# Altium integrated library altera-stratix-iv.IntLib: 38 symbols (part 19 of 21)
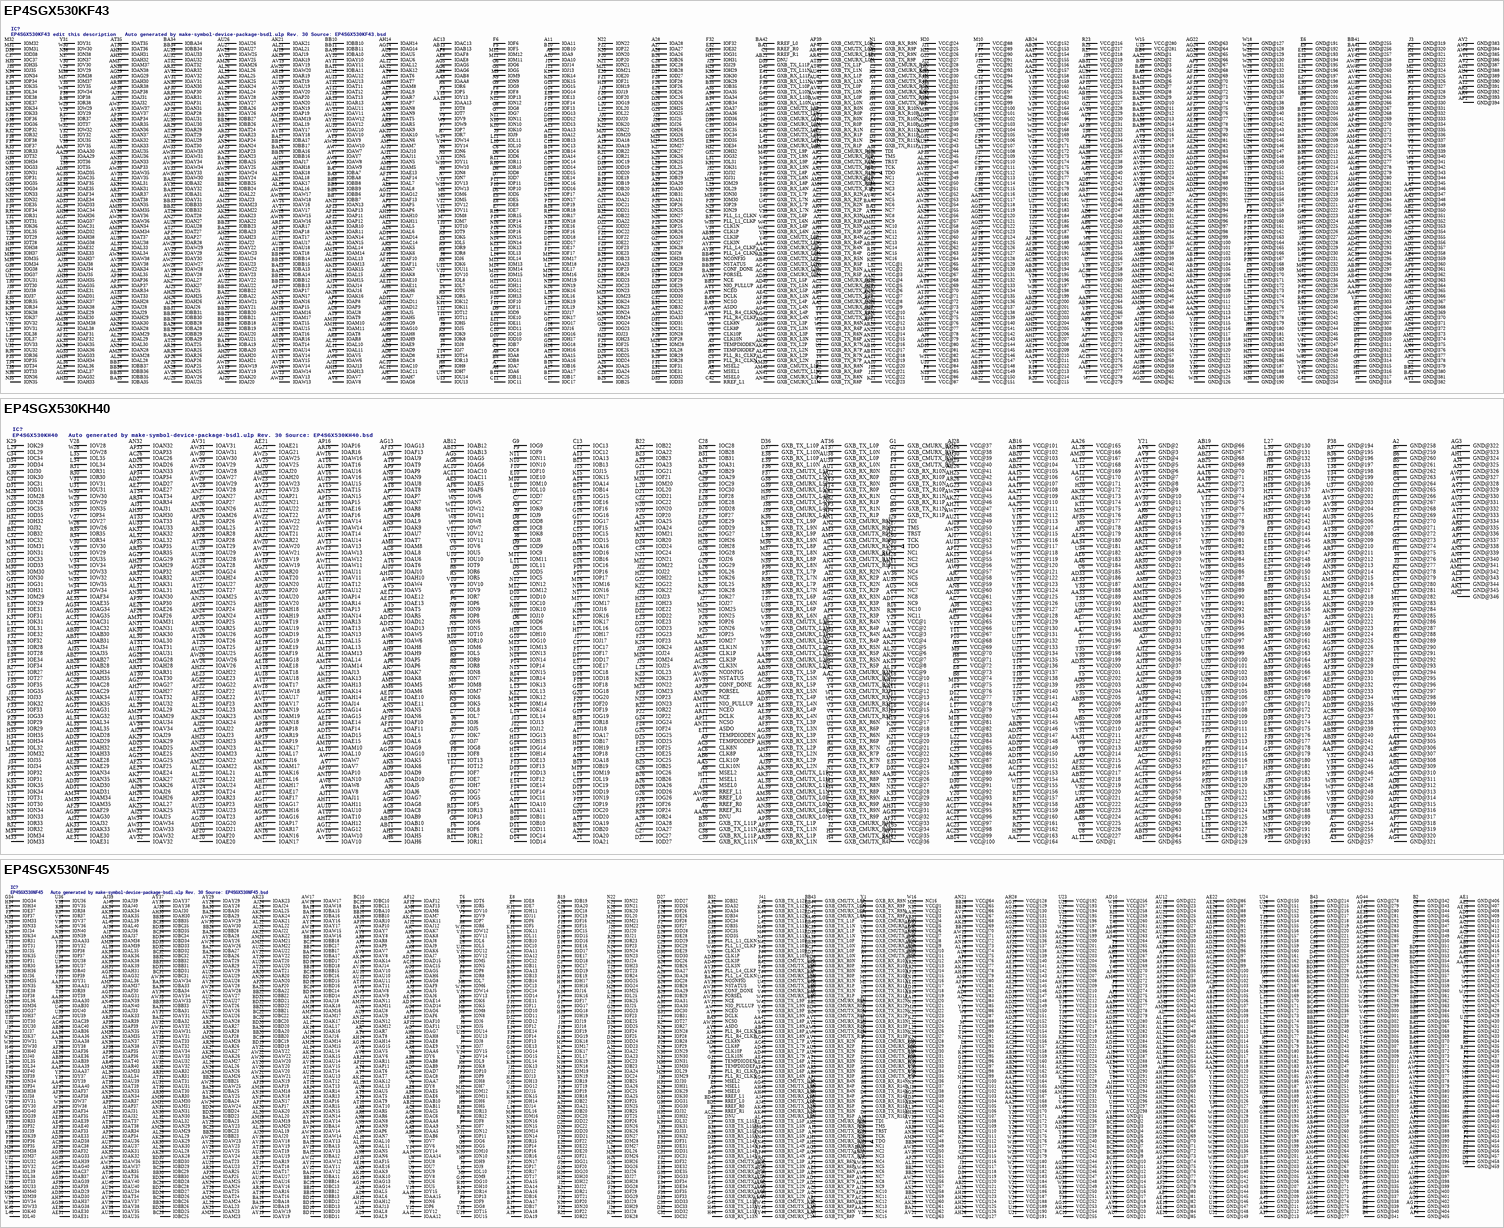
[diagram p34: symbols EP4SGX530KF43 to EP4SGX530NF45]

## EP4SGX530KF43
designator IC?, comment EP4SGX530KF43 edit this description   Auto generated by make-symbol-device-package-bsdl.ulp Rev. 30 Source: EP4SGX530KF43.bsd
MPN: EP4SGX530KF43C3N; OC_FARNELL: unknown; OC_NEWARK: 52R2020
footprint FBGA1760
pins: A2 MSEL0, A3 TEMPDIODEN, A4 TEMPDIODEP, A5 MSEL1, A6 IOA6, A7 IOA7, A8 IOA8, A9 IOA9, A10 IOA10, A11 IOA11, A12 IOA12, A13 IOA13, A14 IOA14, A15 IOA15, A16 IOA16, A17 IOA17, A18 IOA18, A19 IOA19, A20 IOA20, A21 IOA21, A22 IOA22, A23 IOA23, A24 IOA24, A25 IOA25, A26 IOA26, A27 IOA27, A28 IOA28, A29 IOA29, A30 IOA30, A31 IOA31, A32 IOA32, A33 IOA33, A34 IOA34, A35 IOA35, A36 IOA36, A37 IOA37, A38 TDI, A39 NC1, A40 TCK, A41 TRST, AA1 GXB_CMURX_R3N, AA2 GXB_CMURX_R3P, AA3 GND@348 (power), AA4 GND@347 (power), AA5 VCC@240 (power), AA6 VCC@251 (power), AA7 GND@346 (power), AA8 IOAA8, AA9 VCC@267 (power), AA10 VCC@20 (power), AA11 VCC@19 (power), AA12 VCC@225 (power), AA13 IOAA13, AA14 VCC@211 (power), AA15 VCC@277 (power), AA16 GND@109 (power), AA17 VCC@154 (power), AA18 GND@110 (power), AA19 VCC@155 (power), AA20 GND@111 (power), AA21 VCC@117 (power), AA22 GND@2 (power), AA23 VCC@156 (power), AA24 GND@112 (power), AA25 VCC@157 (power), AA26 GND@113 (power), AA27 VCC@158 (power), AA28 GND@114 (power), AA29 IOAA29, AA30 IOAA30, AA31 VCC@221 (power), AA32 VCC@4 (power), AA33 VCC@3 (power), AA34 VCC@264 (power), AA35 CLK3N, AA36 GND@300 (power), AA37 VCC@245 (power), AA38 VCC@237 (power), AA39 GND@301 (power), AA40 GND@302 (power), AA41 GXB_CMURX_L3P, AA42 GXB_CMURX_L3N, AB1 GND@351 (power), AB2 GND@350 (power), AB3 GXB_CMUTX_R2N, AB4 GXB_CMUTX_R2P, AB5 GND@349 (power), AB6 VCC@250 (power), AB7 VCC@276 (power), AB8 IOAB8, AB9 VCC@268 (power), AB10 VCC@17 (power), AB11 VCC@18 (power), AB12 VCC@226 (power), AB13 IOAB13, AB14 VCC@210 (power), AB15 GND@103 (power), AB16 VCC@148 (power), AB17 GND@104 (power), AB18 VCC@149 (power), AB19 GND@105 (power), AB20 VCC@150 (power), AB21 DNU, AB22 VCC@151 (power), AB23 GND@106 (power), AB24 VCC@152 (power), AB25 GND@107 (power), AB26 VCC@153 (power), AB27 GND@108 (power), AB28 VCC@194 (power), AB29 VCC@200 (power), AB30 NC14, AB31 VCC@220 (power), AB32 VCC@5 (power), AB33 VCC@6 (power), AB34 VCC@265 (power), AB35 CLK3P, AB36 VCC@195 (power), AB37 VCC@244 (power), AB38 GND@297 (power), AB39 GXB_CMUTX_L2P, AB40 GXB_CMUTX_L2N, AB41 GND@298 (power), AB42 GND@299 (power), AC1 GXB_CMURX_R2N, AC2 GXB_CMURX_R2P, AC3 GND@354 (power), AC4 GND@353 (power), AC5 VCC@262 (power), AC6 GND@352 (power), AC7 VCC@274 (power), AC8 IOAC8, AC9 GND@92 (power), AC10 IOAC10, AC11 IOAC11, AC12 GND@93 (power), AC13 IOAC13, AC14 IOAC14, AC15 VCC@275 (power), AC16 GND@94 (power), AC17 VCC@142 (power), AC18 GND@95 (power), AC19 VCC@143 (power), AC20 GND@96 (power), AC21 VCC@144 (power), AC22 GND@97 (power), AC23 VCC@145 (power), AC24 GND@98 (power), AC25 VCC@146 (power), AC26 GND@99 (power), AC27 VCC@147 (power), AC28 GND@100 (power), AC29 NC13, AC30 GND@101 (power), AC31 IOAC31, AC33 GND@102 (power), AC34 IOAC34, AC35 IOAC35, AC36 VCC@193 (power), AC37 GND@294 (power), AC38 VCC@259 (power), AC39 GND@295 (power), AC40 GND@296 (power), AC41 GXB_CMURX_L2P, AC42 GXB_CMURX_L2N, AD1 GND@358 (power), AD2 GND@357 (power), AD3 GXB_TX_R5N, AD4 GXB_TX_R5P, AD5 GND@356 (power), AD6 VCC@248 (power), AD7 GND@355 (power), AD8 IOAD8, AD9 IOAD9, AD10 VCC@81 (power), AD11 IOAD11, AD12 IOAD12, AD13 VCC@78 (power), AD14 IOAD14, AD15 GND@85 (power), AD16 VCC@136 (power), AD17 GND@86 (power), AD18 VCC@137 (power), AD19 GND@87 (power), AD20 VCC@138 (power), AD21 GND@88 (power), AD22 VCC@139 (power), AD23 GND@89 (power), AD24 VCC@140 (power), AD25 GND@90 (power), AD26 VCC@141 (power), AD27 GND@91 (power), AD28 VCC@192 (power), AD29 VCC@201 (power), AD30 VCC@41 (power), AD31 IOAD31, AD32 IOAD32, AD33 IOAD33, AD34 VCC@38 (power), AD35 IOAD35, AD36 GND@290 (power), AD37 VCC@242 (power), AD38 GND@291 (power), AD39 GXB_TX_L5P, AD40 GXB_TX_L5N, AD41 GND@292 (power), AD42 GND@293 (power), AE1 GXB_RX_R5N, AE2 GXB_RX_R5P, AE3 GND@360 (power), AE4 GND@359 (power), AE5 VCC@239 (power), AE6 VCC@249 (power), AE7 VCC@272 (power), AE8 IOAE8, AE9 IOAE9, AE10 IOAE10, AE11 IOAE11, AE13 IOAE13, AE14 VCC@209 (power), AE15 VCC@273 (power), AE16 GND@78 (power), AE17 VCC@130 (power), AE18 GND@79 (power), AE19 VCC@131 (power), AE20 GND@80 (power), AE21 VCC@132 (power), AE22 GND@81 (power), AE23 VCC@133 (power), AE24 GND@82 (power), AE25 VCC@134 (power), AE26 GND@83 (power), AE27 VCC@135 (power), AE28 GND@84 (power), AE29 IOAE29, AE30 IOAE30, AE31 IOAE31, AE32 IOAE32, AE33 IOAE33, AE34 IOAE34, AE35 IOAE35, AE36 VCC@191 (power), AE37 VCC@243 (power), AE38 VCC@236 (power), AE39 GND@288 (power), AE40 GND@289 (power), AE41 GXB_RX_L5P, AE42 GXB_RX_L5N, AF1 GND@363 (power), AF2 GND@362 (power), AF3 GXB_TX_R4N, AF4 GXB_TX_R4P, AF5 VCC@234 (power), AF6 GND@361 (power), AF7 VCC@271 (power), AF8 IOAF8, AF9 GND@67 (power), AF10 IOAF10, AF11 IOAF11, AF12 GND@68 (power), AF13 IOAF13, AF14 IOAF14, AF15 GND@69 (power), AF16 VCC@124 (power), AF17 GND@70 (power), AF18 VCC@125 (power), AF19 GND@71 (power), AF20 VCC@126 (power), AF21 GND@72 (power), AF22 VCC@127 (power), AF23 GND@73 (power), AF24 VCC@128 (power), AF25 GND@74 (power), AF26 VCC@129 (power), AF27 GND@75 (power), AF28 VCC@190 (power), AF29 VCC@202 (power), AF30 GND@76 (power), AF31 IOAF31, AF32 IOAF32, AF33 GND@77 (power), AF34 IOAF34, AF35 IOAF35, AF36 VCC@189 (power), AF37 GND@285 (power), AF38 VCC@232 (power), AF39 GXB_TX_L4P, AF40 GXB_TX_L4N, AF41 GND@286 (power), AF42 GND@287 (power), AG1 GXB_RX_R4N, AG2 GXB_RX_R4P, AG3 GND@365 (power), AG4 GND@364 (power), AG5 IOAG5, AG6 IOAG6, AG7 VCC@256 (power), AG8 IOAG8, AG9 IOAG9, AG10 IOAG10, AG11 VCC@80 (power), AG12 IOAG12, AG13 VCC@73 (power), AG14 IOAG14, AG15 NC12, AG16 GND@60 (power), AG17 VCC@118 (power), AG18 GND@61 (power), AG19 VCC@119 (power), AG20 GND@62 (power), AG21 VCC@120 (power), AG22 GND@63 (power), AG23 VCC@121 (power), AG24 GND@64 (power), AG25 VCC@122 (power), AG26 GND@65 (power), AG27 VCC@123 (power), AG28 GND@66 (power), AG29 IOAG29, AG31 VCC@42 (power), AG32 IOAG32, AG33 IOAG33, AG34 VCC@40 (power), AG35 IOAG35, AG36 VCC@254 (power), AG37 IOAG37, AG38 IOAG38, AG39 GND@283 (power), AG40 GND@284 (power), AG41 GXB_RX_L4P, AG42 GXB_RX_L4N, AH1 GND@367 (power), AH2 GND@366 (power), AH3 GXB_TX_R3N, AH4 GXB_TX_R3P, AH5 IOAH5, AH6 IOAH6, AH7 IOAH7, AH8 IOAH8, AH9 IOAH9, AH10 IOAH10, AH11 IOAH11, AH13 IOAH13, AH14 IOAH14, AH15 IOAH15, AH16 VCC@208 (power), AH17 VCC@207 (power), AH18 IOAH18, AH19 VCC@206 (power), AH20 IOAH20, AH21 IOAH21, AH22 VCC@205 (power), AH23 IOAH23, AH24 VCC@204 (power), AH25 IOAH25, AH26 IOAH26, AH27 VCC@203 (power), AH28 IOAH28, AH29 IOAH29, AH30 IOAH30, AH31 IOAH31, AH32 IOAH32, AH33 IOAH33, AH34 IOAH34, AH35 IOAH35, AH36 IOAH36, AH37 IOAH37, AH38 IOAH38, AH39 GXB_TX_L3P, AH40 GXB_TX_L3N, AH41 GND@281 (power), AH42 GND@282 (power), AJ1 GXB_RX_R3N, AJ2 GXB_RX_R3P, AJ3 GND@369 (power), AJ4 GND@368 (power), AJ5 IOAJ5, AJ6 GND@49 (power), AJ7 IOAJ7, AJ8 VCC@79 (power), AJ9 GND@50 (power), AJ10 IOAJ10, AJ11 IOAJ11, AJ12 GND@51 (power), AJ13 IOAJ13, AJ14 IOAJ14, AJ15 GND@52 (power), AJ16 IOAJ16, AJ17 IOAJ17, AJ18 GND@53 (power), AJ19 IOAJ19, AJ20 IOAJ20, AJ21 GND@54 (power), AJ22 IOAJ22, AJ23 IOAJ23, AJ24 GND@55 (power), AJ25 IOAJ25, AJ26 IOAJ26, AJ27 GND@56 (power), AJ28 IOAJ28, AJ29 IOAJ29, AJ30 GND@57 (power), AJ31 IOAJ31, AJ32 IOAJ32, AJ33 GND@58 (power), AJ34 IOAJ34, AJ35 IOAJ35, AJ36 GND@59 (power), AJ37 VCC@39 (power), AJ38 IOAJ38, AJ39 GND@279 (power), AJ40 GND@280 (power), AJ41 GXB_RX_L3P, AJ42 GXB_RX_L3N, AK1 GND@371 (power), AK2 GND@370 (power), AK3 GXB_TX_R2N, AK4 GXB_TX_R2P, AK5 IOAK5, AK6 IOAK6, AK7 IOAK7, AK8 IOAK8, AK9 IOAK9, AK10 IOAK10, AK11 VCC@77 (power), AK12 IOAK12, AK13 NC11, AK14 VCC@68 (power), AK15 IOAK15, AK16 IOAK16, AK17 IOAK17, AK18 IOAK18, AK19 IOAK19, AK20 IOAK20, AK21 IOAK21, AK22 IOAK22, AK23 IOAK23, AK24 IOAK24, AK25 IOAK25, AK26 VCC@52 (power), AK27 IOAK27, AK28 IOAK28, AK29 VCC@47 (power), AK30 IOAK30, AK31 IOAK31, AK32 IOAK32, AK33 IOAK33, AK34 IOAK34, AK35 IOAK35, AK36 IOAK36, AK37 IOAK37, AK38 IOAK38, AK39 GXB_TX_L2P, AK40 GXB_TX_L2N, AK41 GND@277 (power), AK42 GND@278 (power), AL1 GXB_RX_R2N, AL2 GXB_RX_R2P, AL3 GND@373 (power), AL4 GND@372 (power), AL5 IOAL5, AL6 IOAL6, AL7 IOAL7, AL8 IOAL8, AL9 IOAL9, AL10 IOAL10, AL11 IOAL11, AL12 IOAL12, AL13 IOAL13, AL14 IOAL14, AL15 IOAL15, AL16 IOAL16, AL17 VCC@67 (power), AL18 IOAL18, AL19 IOAL19, AL20 VCC@62 (power), AL21 IOAL21, AL22 IOAL22, AL23 VCC@57 (power), AL24 IOAL24, AL25 IOAL25, AL26 IOAL26, AL27 IOAL27, AL28 IOAL28, AL29 IOAL29, AL30 IOAL30, AL31 IOAL31, AL32 VCC@46 (power), AL33 IOAL33, AL34 IOAL34, AL35 IOAL35, AL36 IOAL36, AL37 IOAL37, AL38 IOAL38, AL39 GND@275 (power), AL40 GND@276 (power), AL41 GXB_RX_L2P, AL42 GXB_RX_L2N, AM1 GND@375 (power), AM2 GND@374 (power), AM3 GXB_CMUTX_R1N, AM4 GXB_CMUTX_R1P, AM5 IOAM5, AM6 GND@38 (power), AM7 IOAM7, AM8 IOAM8, AM9 GND@39 (power), AM10 IOAM10, AM11 IOAM11, AM12 GND@40 (power), AM13 IOAM13, AM14 IOAM14, AM15 GND@41 (power), AM16 IOAM16, AM17 IOAM17, AM18 GND@42 (power), AM19 IOAM19, AM21 GND@43 (power), AM22 IOAM22, AM23 IOAM23, AM24 GND@44 (power), AM26 IOAM26, AM27 GND@45 (power), AM28 IOAM28, AM29 IOAM29, AM30 GND@46 (power), AM31 NC9, AM32 NC10, AM33 GND@47 (power), AM34 IOAM34, AM35 IOAM35, AM36 GND@48 (power), AM37 IOAM37, AM38 IOAM38, AM39 GXB_CMUTX_L1P, AM40 GXB_CMUTX_L1N, AM41 GND@273 (power), AM42 GND@274 (power), AN1 GXB_CMURX_R1N, AN2 GXB_CMURX_R1P, AN3 GND@377 (power), AN4 GND@376 (power), AN5 IOAN5, AN6 IOAN6, AN7 VCC@75 (power), AN8 IOAN8, AN9 IOAN9, AN10 VCC@76 (power), AN11 VCC@15 (power), AN12 VCC@16 (power), AN13 IOAN13, AN14 IOAN14, AN15 IOAN15, AN16 IOAN16, AN17 IOAN17, AN19 IOAN19, AN20 IOAN20, AN21 VCC@14 (power), AN22 VCC@9 (power), AN23 IOAN23, AN24 IOAN24, AN25 IOAN25, AN26 VCC@56 (power), AN27 IOAN27, AN28 IOAN28, AN29 VCC@51 (power), AN30 IOAN30, AN31 IOAN31, AN32 VCC@7 (power), AN33 IOAN33, AN34 IOAN34, AN35 IOAN35, AN36 IOAN36, AN37 IOAN37, AN38 IOAN38, AN39 GND@271 (power), AN40 GND@272 (power), AN41 GXB_CMURX_L1P, AN42 GXB_CMURX_L1N, AP1 GND@394 (power), AP2 GND@378 (power), AP3 GXB_CMUTX_R0N, AP4 GXB_CMUTX_R0P, AP5 IOAP5, AP6 IOAP6, AP7 IOAP7, AP8 IOAP8, AP9 IOAP9, AP10 VCC@224 (power), AP11 IOAP11, AP12 IOAP12, AP13 IOAP13, AP14 VCC@72 (power), AP15 IOAP15, AP16 VCC@66 (power), AP17 IOAP17, AP18 IOAP18, AP19 IOAP19, AP20 IOAP20, AP21 VCC@12 (power), AP22 VCC@11 (power), AP23 IOAP23, AP24 IOAP24, AP25 IOAP25, AP26 IOAP26, AP27 IOAP27, AP28 IOAP28, AP30 IOAP30, AP31 IOAP31, AP32 VCC@8 (power), AP33 IOAP33, AP34 IOAP34, AP35 VCC@45 (power), AP36 IOAP36, AP37 IOAP37, AP38 IOAP38, AP39 GXB_CMUTX_L0P, AP40 GXB_CMUTX_L0N, AP41 GND@269 (power), AP42 GND@270 (power), AR1 GXB_CMURX_R0N, AR2 GXB_CMURX_R0P, AR3 GND@392 (power), AR4 GND@393 (power), AR5 IOAR5, AR6 GND@27 (power), AR7 IOAR7, AR8 IOAR8, AR9 GND@28 (power), AR10 IOAR10, AR11 IOAR11, AR12 GND@29 (power), AR13 IOAR13, AR15 GND@30 (power), AR16 IOAR16, AR17 IOAR17, AR18 GND@31 (power), AR19 IOAR19, AR20 VCC@13 (power), AR21 GND@32 (power), AR22 VCC@10 (power), AR23 IOAR23, AR24 GND@33 (power), AR25 IOAR25, AR26 IOAR26, AR27 GND@34 (power), AR28 IOAR28, AR29 IOAR29, AR30 GND@35 (power), AR31 IOAR31, AR32 IOAR32, AR33 GND@36 (power), AR34 IOAR34, AR35 IOAR35, AR36 GND@37 (power), AR37 IOAR37, AR38 IOAR38, AR39 GND@267 (power), AR40 GND@268 (power), AR41 GXB_CMURX_L0P, AR42 GXB_CMURX_L0N, AT1 GND@390 (power), AT2 GND@391 (power), AT3 GXB_TX_R1N, AT4 GXB_TX_R1P, AT5 IOAT5, AT6 IOAT6, AT7 IOAT7, AT8 IOAT8, AT9 IOAT9, AT10 VCC@71 (power), AT11 IOAT11, AT12 IOAT12, AT13 IOAT13, AT14 IOAT14, AT15 IOAT15, AT16 IOAT16, AT17 IOAT17, AT18 IOAT18, AT19 IOAT19, AT20 VCC@61 (power), AT21 VCC@223 (power), AT23 VCC@59 (power), AT24 IOAT24, AT25 IOAT25, AT26 VCC@55 (power), AT27 IOAT27, AT28 IOAT28, AT29 IOAT29, AT30 IOAT30, AT31 VCC@50 (power), AT32 IOAT32, AT33 IOAT33, AT34 VCC@44 (power), AT35 IOAT35, AT36 IOAT36, AT37 IOAT37, AT38 IOAT38, AT39 GXB_TX_L1P, AT40 GXB_TX_L1N, AT41 GND@265 (power), AT42 GND@266 (power), AU1 GXB_RX_R1N, AU2 GXB_RX_R1P, AU3 GND@388 (power), AU4 GND@389 (power), AU5 IOAU5, AU6 IOAU6, AU7 VCC@74 (power), AU8 IOAU8, AU9 VCC@230 (power), AU10 IOAU10, AU11 IOAU11, AU12 IOAU12, AU13 IOAU13, AU14 IOAU14, AU15 IOAU15, AU16 VCC@65 (power), AU17 IOAU17, AU18 IOAU18, AU19 IOAU19, AU20 IOAU20, AU21 IOAU21, AU22 IOAU22, AU23 IOAU23, AU24 IOAU24, AU25 IOAU25, AU26 IOAU26, AU27 IOAU27, AU28 IOAU28, AU29 IOAU29, AU30 IOAU30, AU31 IOAU31, AU32 IOAU32, AU33 IOAU33, AU34 VCC@222 (power), AU35 IOAU35, AU36 IOAU36, AU37 VCC@43 (power), AU38 IOAU38, AU39 GND@263 (power), AU40 GND@264 (power), AU41 GXB_RX_L1P, AU42 GXB_RX_L1N, AV1 GND@386 (power), AV2 GND@387 (power), AV3 GXB_TX_R0N, AV4 GXB_TX_R0P, AV5 IOAV5, AV6 GND@16 (power), AV7 IOAV7, AV8 IOAV8, AV9 GND@17 (power), AV10 IOAV10, AV11 IOAV11, AV12 GND@18 (power), AV13 IOAV13, AV14 IOAV14, AV15 GND@19 (power), AV16 IOAV16, AV17 IOAV17, AV18 GND@20 (power), AV19 IOAV19, AV20 IOAV20, AV21 GND@21 (power), AV22 IOAV22, AV23 IOAV23, AV24 GND@22 (power), AV25 IOAV25, AV26 IOAV26, AV27 GND@23 (power), AV28 IOAV28, AV29 IOAV29, AV30 GND@24 (power), AV31 IOAV31, AV32 IOAV32, AV33 GND@25 (power), AV34 VCC@229 (power), AV35 IOAV35, AV36 GND@26 (power), AV37 IOAV37, AV38 IOAV38, AV39 GXB_TX_L0P, AV40 GXB_TX_L0N, AV41 GND@261 (power), AV42 GND@262 (power), AW1 GXB_RX_R0N, AW2 GXB_RX_R0P, AW3 GND@384 (power), AW4 GND@385 (power), AW5 PLL_R4_CLKN, AW6 IOAW6, AW7 IOAW7, AW8 IOAW8, AW9 IOAW9, AW10 IOAW10, AW11 VCC@70 (power), AW12 IOAW12, AW13 IOAW13, AW14 IOAW14, AW15 IOAW15, AW16 IOAW16, AW17 IOAW17, AW18 IOAW18, AW19 IOAW19, AW20 IOAW20, AW21 IOAW21, AW22 IOAW22, AW23 IOAW23, AW24 IOAW24, AW25 IOAW25, AW26 VCC@54 (power), AW27 IOAW27, AW28 IOAW28, AW29 IOAW29, AW30 IOAW30, AW31 IOAW31, AW32 VCC@49 (power), AW33 IOAW33, AW34 IOAW34, AW35 IOAW35, AW36 IOAW36, AW37 IOAW37, AW38 IOAW38, AW39 GND@259 (power), AW40 GND@260 (power), AW41 GXB_RX_L0P, AW42 GXB_RX_L0N, AY1 GND@382 (power), AY2 GND@383 (power), AY3 NC8, AY4 DCLK, AY5 NCEO, AY6 PLL_R4_CLKP, AY7 IOAY7, AY8 VCC@69 (power), AY9 IOAY9, AY10 IOAY10, AY11 IOAY11, AY12 IOAY12, AY13 VCC@63 (power), AY14 IOAY14, AY15 IOAY15, AY16 VCC@64 (power), AY17 IOAY17, AY18 IOAY18, AY19 IOAY19, AY20 VCC@60 (power), AY21 IOAY21, AY22 IOAY22, AY23 VCC@58 (power), AY24 IOAY24, AY25 IOAY25, AY26 IOAY26, AY27 IOAY27, AY28 IOAY28, AY29 VCC@53 (power), AY30 IOAY30, AY31 IOAY31, AY32 IOAY32, AY33 IOAY33, AY34 IOAY34, AY35 VCC@48 (power), AY36 IOAY36, AY37 PLL_L4_CLKP, AY38 PLL_L4_CLKN, AY39 NCE, AY40 NC5, AY41 GND@257 (power), AY42 GND@258 (power), B1 GND@305 (power), B2 GND@304 (power), B3 NC4, B4 MSEL2, B5 PLL_R1_CLKP, B6 GND@202 (power), B7 IOB7, B8 IOB8, B9 GND@203 (power), B10 IOB10, B11 IOB11, B12 GND@204 (power), B13 IOB13, B14 IOB14, B15 GND@205 (power), B16 IOB16, B17 IOB17, B18 GND@206 (power), B19 IOB19, B20 IOB20, B21 GND@207 (power), B22 IOB22, B23 IOB23, B24 GND@208 (power), B25 IOB25, B26 IOB26, B27 GND@209 (power), B28 IOB28, B29 IOB29, B30 GND@210 (power), B31 IOB31, B32 IOB32, B33 GND@211 (power), B34 IOB34, B35 IOB35, B36 GND@212 (power), B37 PLL_L1_CLKP, B38 TMS, B39 GND@3 (power), B40 TDO (out), B41 GND@214 (power), B42 GND@213 (power), BA1 RREF_R0, BA2 GND@381 (power), BA3 NC7, BA4 NCSO, BA5 ASDO, BA6 GND@4 (power), BA7 IOBA7, BA8 IOBA8, BA9 GND@5 (power), BA10 IOBA10, BA11 IOBA11, BA12 GND@6 (power), BA13 IOBA13, BA14 IOBA14, BA15 GND@7 (power), BA16 IOBA16, BA17 IOBA17, BA18 GND@8 (power), BA19 IOBA19, BA20 IOBA20, BA21 GND@9 (power), BA22 IOBA22, BA23 IOBA23, BA24 GND@10 (power), BA25 IOBA25, BA26 IOBA26, BA27 GND@11 (power), BA28 IOBA28, BA29 IOBA29, BA30 GND@12 (power), BA31 IOBA31, BA32 IOBA32, BA33 GND@13 (power), BA34 IOBA34, BA35 IOBA35, BA36 GND@14 (power), BA37 NC2, BA38 PORSEL, BA39 GND@15 (power), BA40 NC6, BA41 GND@256 (power), BA42 RREF_L0, BB2 GND@380 (power), BB3 NIO_PULLUP, BB4 GND@1 (power), BB5 NC3, BB6 IOBB6, BB7 IOBB7, BB8 IOBB8, BB9 IOBB9, BB10 IOBB10, BB11 IOBB11, BB12 IOBB12, BB13 IOBB13, BB14 IOBB14, BB15 IOBB15, BB16 IOBB16, BB17 IOBB17, BB18 IOBB18, BB19 IOBB19, BB20 IOBB20, BB21 IOBB21, BB22 IOBB22, BB23 IOBB23, BB24 IOBB24, BB25 IOBB25, BB26 IOBB26, BB27 IOBB27, BB28 IOBB28, BB29 IOBB29, BB30 IOBB30, BB31 IOBB31, BB32 IOBB32, BB33 IOBB33, BB34 IOBB34, BB35 IOBB35, BB36 IOBB36, BB37 IOBB37, BB38 CONF_DONE, BB39 NSTATUS, BB40 NCONFIG, BB41 GND@255 (power), C1 RREF_R1, C2 GND@379 (power), C3 GND@307 (power), C4 GND@306 (power), C5 PLL_R1_CLKN, C6 IOC6, C7 VCC@93 (power), C8 IOC8, C9 VCC@94 (power), C10 IOC10, C11 IOC11, C12 VCC@95 (power), C13 IOC13, C14 IOC14, C15 VCC@99 (power), C16 IOC16, C17 IOC17, C18 VCC@100 (power), C19 IOC19, C20 VCC@103 (power), C21 IOC21, C22 IOC22, C23 IOC23, C24 VCC@104 (power), C25 IOC25, C26 IOC26, C27 VCC@111 (power), C28 IOC28, C29 IOC29, C30 VCC@107 (power), C31 IOC31, C32 IOC32, C33 VCC@115 (power), C34 IOC34, C35 IOC35, C36 VCC@116 (power), C37 IOC37, C38 PLL_L1_CLKN, C39 GND@216 (power), C40 GND@215 (power), C41 GND@254 (power), C42 RREF_L1, D1 GND@309 (power), D2 GND@308 (power), D3 GXB_TX_R11N, D4 GXB_TX_R11P, D5 IOD5, D6 IOD6, D7 IOD7, D8 IOD8, D9 IOD9, D10 IOD10, D11 IOD11, D12 IOD12, D13 IOD13, D14 IOD14, D15 IOD15, D16 IOD16, D17 IOD17, D18 IOD18, D19 IOD19, D20 IOD20, D21 IOD21, D22 IOD22, D23 IOD23, D24 IOD24, D25 IOD25, D26 IOD26, D27 IOD27, D28 IOD28, D29 IOD29, D30 IOD30, D31 IOD31, D32 IOD32, D33 IOD33, D34 IOD34, D35 IOD35, D36 IOD36, D37 VCC@29 (power), D38 IOD38, D39 GXB_TX_L11P, D40 GXB_TX_L11N, D41 GND@218 (power), D42 GND@217 (power), E1 GXB_RX_R11N, E2 GXB_RX_R11P, E3 GND@311 (power), E4 GND@310 (power), E5 IOE5, E6 GND@191 (power), E7 IOE7, E8 IOE8, E9 GND@192 (power), E10 IOE10, E11 IOE11, E12 GND@193 (power), E13 IOE13, E14 IOE14, E15 GND@194 (power), E16 IOE16, E17 IOE17, E18 GND@195 (power), E19 IOE19, E20 IOE20, E21 GND@196 (power), E22 IOE22, E23 IOE23, E24 GND@197 (power), E25 IOE25, E26 IOE26, E27 GND@198 (power), E28 IOE28, E29 IOE29, E30 GND@199 (power), E31 IOE31, E32 IOE32, E33 GND@200 (power), E34 IOE34, E35 IOE35, E36 GND@201 (power), E37 IOE37, E38 IOE38, E39 GND@220 (power), E40 GND@219 (power), E41 GXB_RX_L11P, E42 GXB_RX_L11N, F1 GND@313 (power), F2 GND@312 (power), F3 GXB_TX_R10N, F4 GXB_TX_R10P, F5 IOF5, F6 IOF6, F7 VCC@90 (power), F8 IOF8, F9 VCC@231 (power), F10 IOF10, F11 IOF11, F12 VCC@91 (power), F13 IOF13, F14 IOF14, F15 VCC@97 (power), F16 IOF16, F17 IOF17, F18 VCC@98 (power), F19 VCC@101 (power), F20 IOF20, F21 IOF21, F22 IOF22, F23 IOF23, F24 VCC@106 (power), F25 IOF25, F26 IOF26, F27 VCC@110 (power), F28 IOF28, F29 IOF29, F30 VCC@112 (power), F31 IOF31, F32 IOF32, F33 VCC@114 (power), F34 IOF34, F35 VCC@33 (power), F36 IOF36, F37 IOF37, F38 IOF38, F39 GXB_TX_L10P, F40 GXB_TX_L10N, F41 GND@222 (power), F42 GND@221 (power), G1 GXB_RX_R10N, G2 GXB_RX_R10P, G3 GND@315 (power), G4 GND@314 (power), G5 IOG5, G6 IOG6, G7 IOG7, G8 IOG8, G9 IOG9, G10 NC16, G11 IOG11, G12 IOG12, G13 IOG13, G14 IOG14, G15 IOG15, G16 IOG16, G17 IOG17, G18 IOG18, G19 IOG19, G21 VCC@228 (power), G22 VCC@27 (power), G23 IOG23, G24 IOG24, G25 IOG25, G26 IOG26, G27 IOG27, G28 IOG28, G29 IOG29, G31 IOG31, G32 IOG32, G33 IOG33, G34 IOG34, G35 IOG35, G36 IOG36, G37 IOG37, G38 IOG38, G39 GND@224 (power), G40 GND@223 (power), G41 GXB_RX_L10P, G42 GXB_RX_L10N, H1 GND@317 (power), H2 GND@316 (power), H3 GXB_CMUTX_R5N, H4 GXB_CMUTX_R5P, H5 IOH5, H6 GND@180 (power), H7 IOH7, H8 IOH8, H9 GND@181 (power), H10 VCC@227 (power), H11 IOH11, H12 GND@182 (power), H13 IOH13, H15 GND@183 (power), H16 IOH16, H17 IOH17, H18 GND@184 (power), H19 IOH19, H20 VCC@24 (power), H21 GND@185 (power), H22 VCC@26 (power), H23 IOH23, H24 GND@186 (power), H25 IOH25, H26 IOH26, H27 GND@187 (power), H28 IOH28, H29 IOH29, H30 GND@188 (power), H31 IOH31, H32 IOH32, H33 GND@189 (power), H34 IOH34, H35 IOH35, H36 GND@190 (power), H37 IOH37, H38 IOH38, H39 GXB_CMUTX_L5P, H40 GXB_CMUTX_L5N, H41 GND@226 (power), H42 GND@225 (power), J1 GXB_CMURX_R5N, J2 GXB_CMURX_R5P, J3 GND@319 (power), J4 GND@318 (power), J5 IOJ5, J6 IOJ6, J7 IOJ7, J8 IOJ8, J9 IOJ9, J10 VCC@89 (power), J11 VCC@22 (power), J12 VCC@21 (power), J13 IOJ13, J14 IOJ14, J15 VCC@92 (power), J16 IOJ16, J17 IOJ17, J18 VCC@96 (power), J19 IOJ19, J20 IOJ20, J21 VCC@25 (power), J22 VCC@28 (power), J23 IOJ23, J24 VCC@105 (power), J25 IOJ25, J26 IOJ26, J27 VCC@109 (power), J28 IOJ28, J29 IOJ29, J30 VCC@113 (power), J31 IOJ31, J32 IOJ32, J33 VCC@31 (power), J34 VCC@219 (power), J35 IOJ35, J36 VCC@32 (power), J37 IOJ37, J38 IOJ38, J39 GND@228 (power), J40 GND@227 (power), J41 GXB_CMURX_L5P, J42 GXB_CMURX_L5N, K1 GND@321 (power), K2 GND@320 (power), K3 GXB_CMUTX_R4N, K4 GXB_CMUTX_R4P, K5 IOK5, K6 IOK6, K7 VCC@82 (power), K8 IOK8, K9 IOK9, K10 IOK10, K11 IOK11, K12 IOK12, K13 IOK13, K14 IOK14, K15 IOK15, K16 IOK16, K17 IOK17, K19 IOK19, K20 IOK20, K21 VCC@23 (power), K22 IOK22, K23 IOK23, K24 IOK24, K25 IOK25, K26 IOK26, K27 IOK27, K28 IOK28, K29 IOK29, K30 IOK30, K31 IOK31, K32 VCC@1 (power), K33 IOK33, K34 IOK34, K35 IOK35, K36 IOK36, K37 IOK37, K38 IOK38, K39 GXB_CMUTX_L4P, K40 GXB_CMUTX_L4N, K41 GND@230 (power), K42 GND@229 (power), L1 GXB_CMURX_R4N, L2 GXB_CMURX_R4P, L3 GND@323 (power), L4 GND@322 (power), L5 IOL5, L6 GND@169 (power), L7 IOL7, L8 IOL8, L9 GND@170 (power), L10 IOL10, L11 IOL11, L12 GND@171 (power), L13 IOL13, L14 IOL14, L15 GND@172 (power), L16 IOL16, L17 IOL17, L18 GND@173 (power), L19 IOL19, L20 IOL20, L21 GND@174 (power), L22 IOL22, L24 GND@175 (power), L25 IOL25, L26 VCC@108 (power), L27 GND@176 (power), L28 IOL28, L29 IOL29, L30 GND@177 (power), L31 IOL31, L32 VCC@2 (power), L33 GND@178 (power), L34 IOL34, L35 IOL35, L36 GND@179 (power), L37 IOL37, L38 IOL38, L39 GND@232 (power), L40 GND@231 (power), L41 GXB_CMURX_L4P, L42 GXB_CMURX_L4N, M1 GND@325 (power), M2 GND@324 (power), M3 GXB_TX_R9N, M4 GXB_TX_R9P, M5 IOM5, M6 IOM6, M7 IOM7, M8 IOM8, M9 IOM9, M10 VCC@88 (power), M11 IOM11, M12 IOM12, M13 IOM13, M14 IOM14, M15 IOM15, M16 IOM16, M17 IOM17, M18 IOM18, M19 IOM19, M20 IOM20, M21 IOM21, M22 VCC@102 (power), M23 IOM23, M24 IOM24, M25 IOM25, M27 IOM27, M28 IOM28, M29 IOM29, M30 IOM30, M31 IOM31, M32 IOM32, M33 VCC@30 (power), M34 IOM34, M35 IOM35, M36 VCC@37 (power), M37 IOM37, M38 IOM38, M39 GXB_TX_L9P, M40 GXB_TX_L9N, M41 GND@234 (power), M42 GND@233 (power), N1 GXB_RX_R9N, N2 GXB_RX_R9P, N3 GND@327 (power), N4 GND@326 (power), N5 ION5, N6 ION6, N7 ION7, N8 ION8, N9 ION9, N10 ION10, N11 ION11, N12 ION12, N13 VCC@86 (power), N14 ION14, N15 ION15, N16 ION16, N17 ION17, N18 ION18, N19 ION19, N20 ION20, N21 ION21, N22 ION22, N23 ION23, N24 ION24, N25 ION25, N26 ION26, N27 ION27, N28 ION28, N29 ION29, N30 ION30, N31 ION31, N32 ION32, N33 ION33, N34 ION34, N35 ION35, N36 ION36, N37 ION37, N38 ION38, N39 GND@236 (power), N40 GND@235 (power), N41 GXB_RX_L9P, N42 GXB_RX_L9N, P1 GND@329 (power), P2 GND@328 (power), P3 GXB_TX_R8N, P4 GXB_TX_R8P, P5 IOP5, P6 GND@158 (power), P7 IOP7, P8 VCC@85 (power), P9 GND@159 (power), P10 IOP10, P11 IOP11, P12 GND@160 (power), P13 IOP13, P14 IOP14, P15 GND@161 (power), P16 IOP16, P17 IOP17, P18 GND@162 (power), P19 IOP19, P20 IOP20, P21 GND@163 (power), P22 IOP22, P23 IOP23, P24 GND@164 (power), P25 IOP25, P26 IOP26, P27 GND@165 (power), P28 IOP28, P29 IOP29, P30 GND@166 (power), P31 IOP31, P32 IOP32, P33 GND@167 (power), P34 IOP34, P35 IOP35, P36 GND@168 (power), P37 VCC@36 (power), P38 IOP38, P39 GXB_TX_L8P, P40 GXB_TX_L8N, P41 GND@238 (power), P42 GND@237 (power), R1 GXB_RX_R8N, R2 GXB_RX_R8P, R3 GND@331 (power), R4 GND@330 (power), R5 IOR5, R6 IOR6, R7 IOR7, R8 IOR8, R9 IOR9, R10 IOR10, R11 IOR11, R13 IOR13, R14 NC15, R15 IOR15, R16 VCC@213 (power), R17 IOR17, R18 IOR18, R19 VCC@214 (power), R20 VCC@215 (power), R21 IOR21, R22 IOR22, R23 VCC@216 (power), R24 IOR24, R25 VCC@217 (power), R26 IOR26, R27 VCC@218 (power), R28 IOR28, R29 IOR29, R31 IOR31, R32 IOR32, R33 IOR33, R34 IOR34, R35 IOR35, R36 IOR36, R37 IOR37, R38 IOR38, R39 GND@240 (power), R40 GND@239 (power), R41 GXB_RX_L8P, R42 GXB_RX_L8N, T1 GND@333 (power), T2 GND@332 (power), T3 GXB_TX_R7N, T4 GXB_TX_R7P, T5 VCC@235 (power), T6 IOT6, T7 IOT7, T8 IOT8, T9 IOT9, T10 IOT10, T11 IOT11, T12 IOT12, T13 VCC@87 (power), T14 IOT14, T15 GND@151 (power), T16 VCC@183 (power), T17 GND@152 (power), T18 VCC@184 (power), T19 GND@153 (power), T20 VCC@185 (power), T21 GND@154 (power), T22 VCC@186 (power), T23 GND@155 (power), T24 VCC@187 (power), T25 GND@156 (power), T26 VCC@188 (power), T27 GND@157 (power), T28 IOT28, T29 IOT29, T30 IOT30, T31 IOT31, T32 IOT32, T33 IOT33, T34 IOT34, T35 IOT35, T36 IOT36, T37 IOT37, T38 VCC@233 (power), T39 GXB_TX_L7P, T40 GXB_TX_L7N, T41 GND@242 (power), T42 GND@241 (power), U1 GXB_RX_R7N, U2 GXB_RX_R7P, U3 GND@336 (power), U4 GND@335 (power), U5 VCC@263 (power), U6 GND@334 (power), U7 VCC@257 (power), U8 CLK10P, U9 GND@140 (power), U10 VCC@84 (power), U11 IOU11, U12 GND@141 (power), U13 IOU13, U14 IOU14, U15 VCC@281 (power), U16 GND@142 (power), U17 VCC@177 (power), U18 GND@143 (power), U19 VCC@178 (power), U20 GND@144 (power), U21 VCC@179 (power), U22 GND@145 (power), U23 VCC@180 (power), U24 GND@146 (power), U25 VCC@181 (power), U26 GND@147 (power), U27 VCC@182 (power), U28 GND@148 (power), U29 VCC@199 (power), U30 GND@149 (power), U31 IOU31, U32 IOU32, U33 GND@150 (power), U34 VCC@35 (power), U35 IOU35, U36 VCC@255 (power), U37 GND@245 (power), U38 VCC@260 (power), U39 GND@244 (power), U40 GND@243 (power), U41 GXB_RX_L7P, U42 GXB_RX_L7N, V1 GND@340 (power), V2 GND@339 (power), V3 GXB_TX_R6N, V4 GXB_TX_R6P, V5 GND@338 (power), V6 VCC@252 (power), V7 GND@337 (power), V8 CLK10N, V9 IOV9, V10 IOV10, V11 IOV11, V12 IOV12, V13 IOV13, V14 VCC@212 (power), V15 GND@133 (power), V16 VCC@171 (power), V17 GND@134 (power), V18 VCC@172 (power), V19 GND@135 (power), V20 VCC@173 (power), V21 GND@136 (power), V22 VCC@174 (power), V23 GND@137 (power), V24 VCC@175 (power), V25 GND@138 (power), V26 VCC@176 (power), V27 GND@139 (power), V28 VCC@270 (power), V29 IOV29, V30 IOV30, V31 IOV31, V32 IOV32, V33 IOV33, V34 CLK1P, V35 IOV35, V36 GND@249 (power), V37 VCC@247 (power), V38 GND@248 (power), V39 GXB_TX_L6P, V40 GXB_TX_L6N, V41 GND@247 (power), V42 GND@246 (power), W1 GXB_RX_R6N, W2 GXB_RX_R6P, W3 GND@342 (power), W4 GND@341 (power), W5 VCC@241 (power), W6 VCC@253 (power), W7 VCC@279 (power), W8 CLK8P, W9 IOW9, W10 IOW10, W11 VCC@83 (power), W13 IOW13, W14 IOW14, W15 VCC@280 (power), W16 GND@126 (power), W17 VCC@165 (power), W18 GND@127 (power), W19 VCC@166 (power), W20 GND@128 (power), W21 VCC@167 (power), W22 GND@129 (power), W23 VCC@168 (power), W24 GND@130 (power), W25 VCC@169 (power), W26 GND@131 (power), W27 VCC@170 (power), W28 GND@132 (power), W29 IOW29, W30 IOW30, W32 IOW32, W33 VCC@34 (power), W34 IOW34, W35 CLK1N, W36 VCC@198 (power), W37 VCC@246 (power), W38 VCC@238 (power), W39 GND@251 (power), W40 GND@250 (power), W41 GXB_RX_L6P, W42 GXB_RX_L6N, Y1 GND@345 (power), Y2 GND@344 (power), Y3 GXB_CMUTX_R3N, Y4 GXB_CMUTX_R3P, Y5 VCC@261 (power), Y6 GND@343 (power), Y7 VCC@278 (power), Y8 CLK8N, Y9 VCC@269 (power), Y10 GND@115 (power), Y11 IOY11, Y12 GND@116 (power), Y13 IOY13, Y14 IOY14, Y15 GND@117 (power), Y16 VCC@159 (power), Y17 GND@118 (power), Y18 VCC@160 (power), Y19 GND@119 (power), Y20 VCC@161 (power), Y21 GND@120 (power), Y22 VCC@162 (power), Y23 GND@121 (power), Y24 VCC@163 (power), Y25 GND@122 (power), Y26 VCC@164 (power), Y27 GND@123 (power), Y28 VCC@196 (power), Y29 IOY29, Y30 GND@124 (power), Y31 IOY31, Y32 IOY32, Y33 GND@125 (power), Y34 VCC@266 (power), Y35 IOY35, Y36 VCC@197 (power), Y37 GND@303 (power), Y38 VCC@258 (power), Y39 GXB_CMUTX_L3P, Y40 GXB_CMUTX_L3N, Y41 GND@253 (power), Y42 GND@252 (power)